# Altium schematic symbol library schlib.SchLib: 2 symbols
Pins are listed as number, name and electrical type; pins without a type are passive.

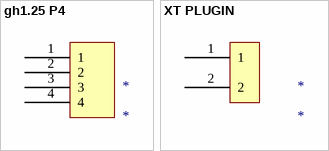
[diagram p0: symbols gh1.25 P4 to XT PLUGIN]

## gh1.25 P4
designator *
footprint GH1.25-4PIN
pins: 1, 2, 3, 4

## XT PLUGIN
designator *
footprint XT30-M
pins: 1, 2